# Altium footprint library vi_measurement.PcbLib: 64 footprints (part 4 of 4)
Each footprint in its own frame and in the unit in brackets; x right, y up, seen from the top. Pads: shape width x height; smd on the part's side, far side on the other; paste and mask are expansions set on the pad; w line width, h text height; cw(c..) or ccw(c..) is an arc to the next point about the centre after c.
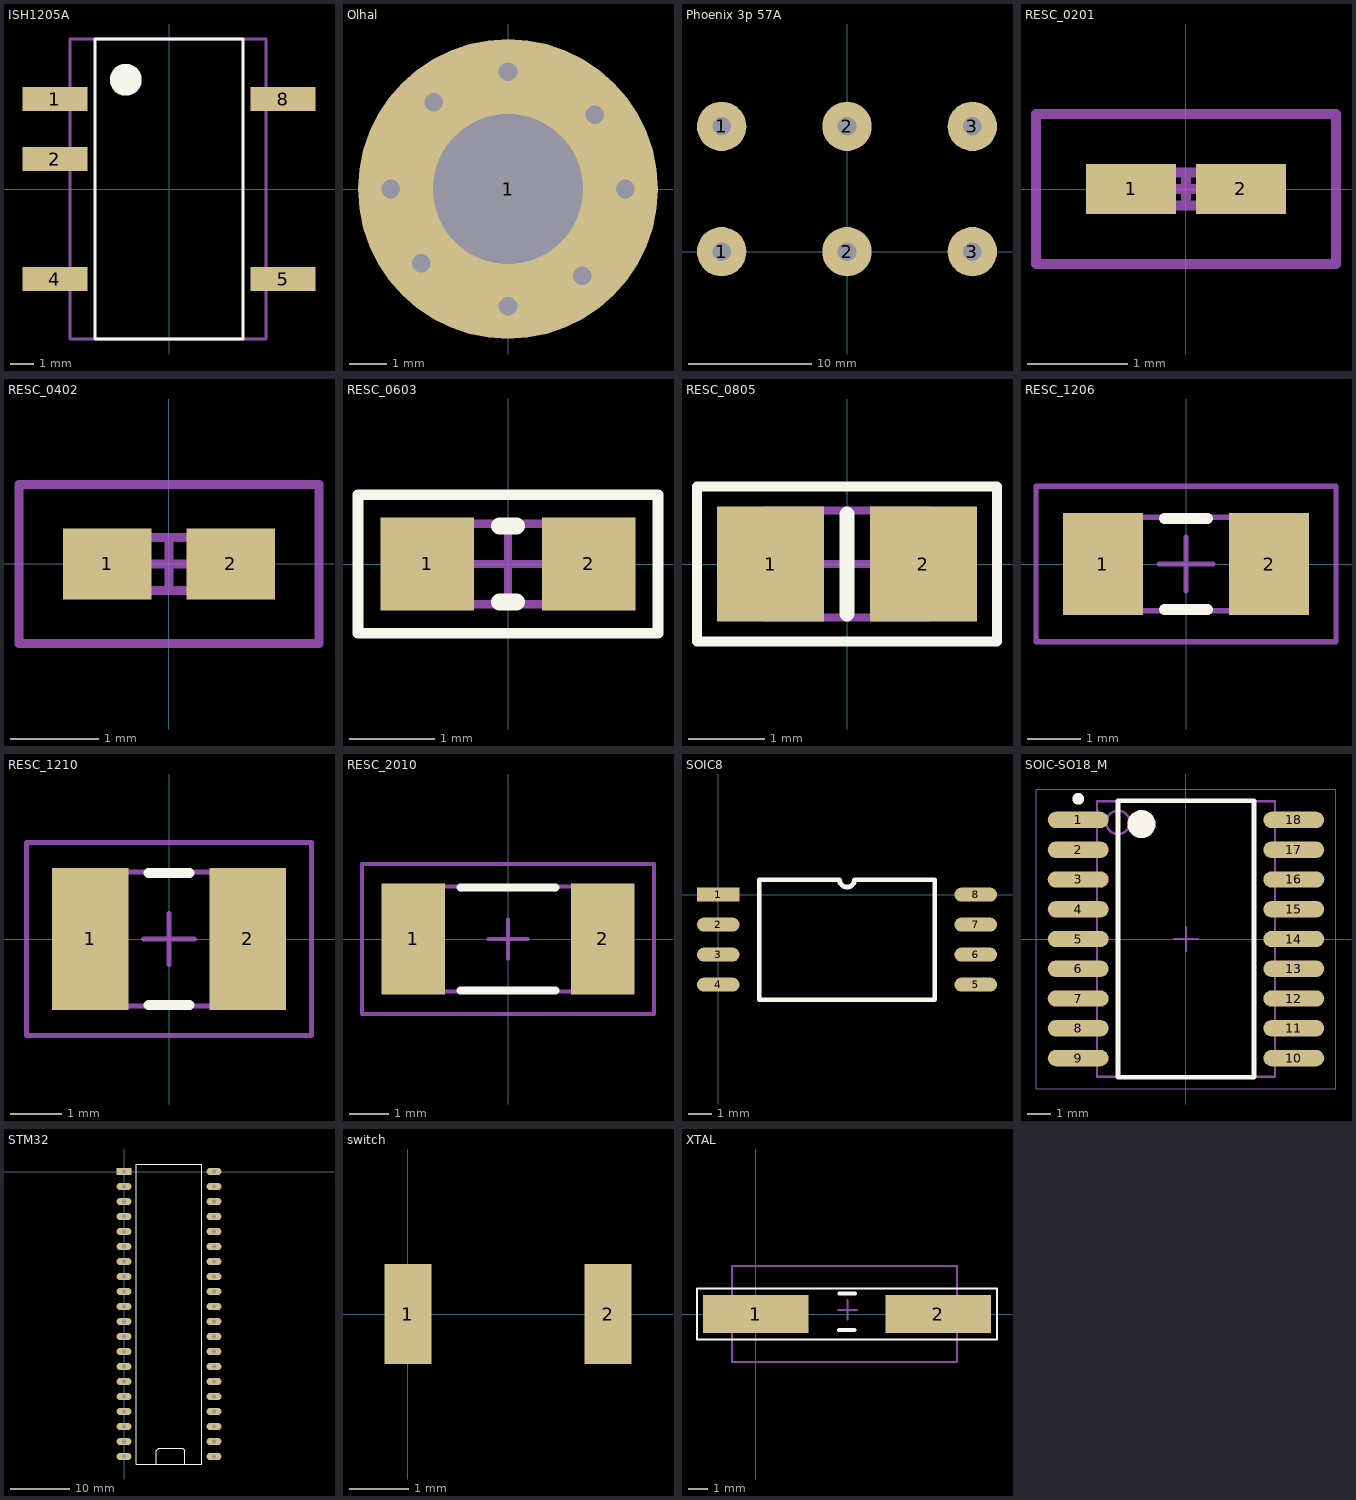
[diagram p3: the footprints below, top view; thin cyan lines are the x and y axes]

## ISH1205A [mm] "Isolated Module DC DC Converter 1 Output 5V 400mA 10.8V - 13.2V Input"
height 4.85
pads (5):
  rect 2.75x1 smd: 1(-4.83,3.81) 2(-4.83,1.27) 4(-4.83,-3.81) 5(4.83,-3.81) 8(4.83,3.81)
Top Overlay:
  circle w0.75: c-1.829,4.623 r0.3
  lines w0.127: -3.124,-6.35 -3.124,6.35 3.124,6.35 3.124,-6.35 -3.124,-6.35
Mechanical 1:
  lines w0.127: -4.195,-6.35 4.111,-6.35 4.111,6.35 -4.195,6.35 -4.195,-6.35
3D body: height 7.25, standoff 0, extent -4.195,-6.35 4.111,6.35

## Olhal [mm]
pads (1):
  round 8 hole 4 unplated: 1(0,0)
via 1.981,-2.311 diameter 0.6 hole 0.5
via -2.311,-1.981 diameter 0.6 hole 0.5
via -1.981,2.311 diameter 0.6 hole 0.5
via 2.311,1.981 diameter 0.6 hole 0.5
via 3.124,0 diameter 0.6 hole 0.5
via 0,-3.124 diameter 0.6 hole 0.5
via -3.124,0 diameter 0.6 hole 0.5
via 0,3.124 diameter 0.6 hole 0.5

## PCBComponent_1 [mm]

## Phoenix 3p 57A [mm]
pads (6):
  round 4 hole 1.5: 1(-10.16,0) 1(-10.16,10.16) 2(0,0) 2(0,10.16) 3(10.16,0) 3(10.16,10.16)
3D body "1929520_01.stp": height 31.25, standoff -4.5, extent -15.363,-3.407 15.972,18.593

## RESC_0201 [mm] "Chip Resistor, Body 0.6x0.3mm, IPC Low Density"
height 0.3
pads (2):
  rect 0.9x0.5 smd: 1(-0.55,0) 2(0.55,0)
Mechanical 13:
  lines w0.1: -0.315,-0.165 0.315,-0.165 0.315,0.165 -0.315,0.165 -0.315,-0.165
Mechanical 15:
  lines w0.1: -0.165,0 0.165,0 ; 0,-0.165 0,0.165 ; -1.5,-0.75 1.5,-0.75 1.5,0.75 -1.5,0.75 -1.5,-0.75
3D body: height 0.3, standoff 0, extent -0.315,-0.165 0.315,0.165

## RESC_0402 [mm] "Chip Resistor, Body 1.1x0.5mm, IPC Low Density"
height 0.4
pads (2):
  rect 1x0.8 smd: 1(-0.7,0) 2(0.7,0)
Mechanical 13:
  lines w0.1: -0.55,-0.3 -0.55,0.3 0.55,0.3 0.55,-0.3 -0.55,-0.3
Mechanical 15:
  lines w0.1: -0.3,0 0.3,0 ; 0,-0.3 0,0.3 ; -1.7,-0.9 -1.7,0.9 1.7,0.9 1.7,-0.9 -1.7,-0.9
3D body: height 0.4, standoff 0, extent -0.55,-0.3 0.55,0.3

## RESC_0603 [mm] "Chip Resistor, Body 1.6x0.8mm, IPC Low Density"
height 0.6
pads (2):
  rect 1.1x1.1 smd: 1(-0.95,0) 2(0.95,0)
Top Overlay:
  lines w0.127: -1.765,-0.816 1.765,-0.816 1.765,0.816 -1.765,0.816 -1.765,-0.816
  lines w0.2: -0.1,-0.45 0.1,-0.45 ; -0.1,0.45 0.1,0.45
Mechanical 13:
  lines w0.1: -0.85,-0.475 0.85,-0.475 0.85,0.475 -0.85,0.475 -0.85,-0.475
Mechanical 15:
  lines w0.1: -0.475,0 0.475,0 ; 0,-0.475 0,0.475
3D body: height 0.6, standoff 0, extent -0.85,-0.475 0.85,0.475

## RESC_0805 [mm] "Chip Resistor, Body 2.0x1.3mm, IPC Low Density"
height 0.65
pads (2):
  rect 1.4x1.5 smd: 1(-1,0) 2(1,0)
Top Overlay:
  lines w0.127: -1.965,-1.015 1.965,-1.015 1.965,1.015 -1.965,1.015 -1.965,-1.015
  lines w0.2: 0,-0.65 0,0.65
Mechanical 13:
  lines w0.1: -1.075,-0.7 -1.075,0.7 1.075,0.7 1.075,-0.7 -1.075,-0.7
Mechanical 15:
  lines w0.1: -0.5,0 0.5,0 ; 0,-0.5 0,0.5
3D body: height 0.65, standoff 0, extent -1.075,-0.7 1.075,0.7

## RESC_1206 [mm] "Chip Resistor, Body 3.2x1.6mm, IPC Low Density"
height 0.71
pads (2):
  rect 1.5x1.9 smd: 1(-1.55,0) 2(1.55,0)
Top Overlay:
  lines w0.2: -0.4,-0.85 0.4,-0.85 ; -0.4,0.85 0.4,0.85
Mechanical 13:
  lines w0.1: -1.675,-0.875 1.675,-0.875 1.675,0.875 -1.675,0.875 -1.675,-0.875
Mechanical 15:
  lines w0.1: -0.5,0 0.5,0 ; 0,-0.5 0,0.5 ; -2.8,-1.45 2.8,-1.45 2.8,1.45 -2.8,1.45 -2.8,-1.45
3D body: height 0.71, standoff 0, extent -1.675,-0.875 1.675,0.875

## RESC_1210 [mm] "Chip Resistor, Body 3.2x2.5mm, IPC Low Density"
height 0.71
pads (2):
  rect 1.5x2.8 smd: 1(-1.55,0) 2(1.55,0)
Top Overlay:
  lines w0.2: -0.4,-1.3 0.4,-1.3 ; -0.4,1.3 0.4,1.3
Mechanical 13:
  lines w0.1: -1.675,-1.32 1.675,-1.32 1.675,1.32 -1.675,1.32 -1.675,-1.32
Mechanical 15:
  lines w0.1: -0.5,0 0.5,0 ; 0,-0.5 0,0.5 ; -2.8,-1.9 2.8,-1.9 2.8,1.9 -2.8,1.9 -2.8,-1.9
3D body: height 0.71, standoff 0, extent -1.675,-1.32 1.675,1.32

## RESC_2010 [mm] "Chip Resistor, Body 5.0x2.5mm, IPC Low Density"
height 0.71
pads (2):
  rect 1.6x2.8 smd: 1(-2.4,0) 2(2.4,0)
Top Overlay:
  lines w0.2: -1.2,-1.3 1.2,-1.3 ; -1.2,1.3 1.2,1.3
Mechanical 13:
  lines w0.1: -2.575,-1.325 2.575,-1.325 2.575,1.325 -2.575,1.325 -2.575,-1.325
Mechanical 15:
  lines w0.1: -0.5,0 0.5,0 ; 0,-0.5 0,0.5 ; -3.7,-1.9 3.7,-1.9 3.7,1.9 -3.7,1.9 -3.7,-1.9
3D body: height 0.71, standoff 0, extent -2.575,-1.325 2.575,1.325

## SOIC8 [mm]
pads (8):
  rect 1.8x0.6 smd: 1(0,0)
  oval 1.8x0.6 smd: 2(0,-1.27) 3(0,-2.54) 4(0,-3.81) 5(10.9,-3.81) 6(10.9,-2.54) 7(10.9,-1.27) 8(10.9,0)
Top Overlay:
  lines w0.2: 1.735,-4.445 9.165,-4.445 9.165,0.635 5.767,0.635 cw(c5.45,0.635) 5.132,0.635 1.735,0.635 1.735,-4.445
3D body: height 3, standoff 0.2, extent 1.702,-4.521 9.22,0.686

## SOIC-SO18_M [mm] "SOIC, 18-Leads, Body 11.5x7.5mm, Pitch 1.27mm, IPC Low Density"
height 2.65
pads (18):
  oval 2.6x0.7 smd: 1(-4.6,5.08) 2(-4.6,3.81) 3(-4.6,2.54) 4(-4.6,1.27) 5(-4.6,0) 6(-4.6,-1.27) 7(-4.6,-2.54) 8(-4.6,-3.81) 9(-4.6,-5.08) 10(4.6,-5.08) 11(4.6,-3.81) 12(4.6,-2.54) 13(4.6,-1.27) 14(4.6,0) 15(4.6,1.27) 16(4.6,2.54) 17(4.6,3.81) 18(4.6,5.08)
Top Overlay:
  circle w0.25: c-4.6,5.98 r0.125
  circle w0.6: c-1.9,4.9 r0.3
  lines w0.2: -2.9,-5.9 -2.9,5.9 2.9,5.9 2.9,-5.9 -2.9,-5.9
Mechanical 13:
  circle w0.1: c-2.9,4.975 r0.5
  lines w0.1: -3.8,-5.875 -3.8,5.875 3.8,5.875 3.8,-5.875 -3.8,-5.875
Mechanical 15:
  lines w0.05: -6.4,-6.4 -6.4,6.4 6.4,6.4 6.4,-6.4 -6.4,-6.4
  lines w0.1: -0.5,0 0.5,0 ; 0,-0.5 0,0.5
3D body: height 2.65, standoff 0.1, extent -3.8,-5.875 3.8,5.875

## STM32 [mm]
pads (40):
  rect 2.5x1.2 hole 0.6: 1(0,0)
  oval 2.5x1.2 hole 0.6: 2(0,-2.54) 3(0,-5.08) 4(0,-7.62) 5(0,-10.16) 6(0,-12.7) 7(0,-15.24) 8(0,-17.78) 9(0,-20.32) 10(0,-22.86) 11(0,-25.4) 12(0,-27.94) 13(0,-30.48) 14(0,-33.02) 15(0,-35.56) 16(0,-38.1) 17(0,-40.64) 18(0,-43.18) 19(0,-45.72) 20(0,-48.26) 21(15.24,-48.26) 22(15.24,-45.72) 23(15.24,-43.18) 24(15.24,-40.64) 25(15.24,-38.1) 26(15.24,-35.56) 27(15.24,-33.02) 28(15.24,-30.48) 29(15.24,-27.94) 30(15.24,-25.4) 31(15.24,-22.86) 32(15.24,-20.32) 33(15.24,-17.78) 34(15.24,-15.24) 35(15.24,-12.7) 36(15.24,-10.16) 37(15.24,-7.62) 38(15.24,-5.08) 39(15.24,-2.54) 40(15.24,0)
Top Overlay:
  lines w0.2: 5.461,-49.454 5.461,-47.269 5.893,-46.838 9.931,-46.838 10.312,-47.219 10.312,-49.479 ; 13.132,1.27 2.085,1.27 2.085,-49.53 13.155,-49.53 13.155,1.27
3D body "STM32F103C8T6-BOARD.STP": height 13.1, standoff -3.9, extent -3.702,-51.943 19.298,5.857

## switch [mm] "Chip Resistor, Body 2.0x1.3mm, IPC Low Density"
height 0.65
pads (2):
  rect 0.8x1.7 smd: 1(0,0) 2(3.4,0)
3D body: height 1.2, standoff 0, extent 0.229,-1.295 3.226,1.219

## XTAL [mm] "XTAL"
height 1.35
pads (2):
  rect 5.5x2 smd: 1(0,0) 2(9.5,0)
Top Overlay:
  lines w0.127: -3.05,-1.325 12.55,-1.325 12.55,1.325 -3.05,1.325 -3.05,-1.325
  lines w0.2: 4.342,-0.834 5.142,-0.834 ; 4.367,1.069 5.167,1.069
Mechanical 13:
  lines w0.1: -1.225,-2.501 -1.225,2.499 10.475,2.499 10.475,-2.501 -1.225,-2.501
Mechanical 15:
  lines w0.1: 4.267,0.219 5.267,0.219 ; 4.767,-0.281 4.767,0.719
3D body: height 1.35, standoff 0, extent -1.175,-2.449 10.4,2.451